# EAGLE library part 74LVCH1T45GW (library 74LVCH1T45)
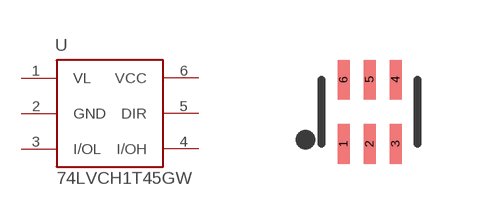
[diagram p0: symbol with the pads of SOT-363; footprint SOT-363]

Designator prefix -

## 74LVCH1T45GW  [SOT-363]
1  VL
2  GND
3  I/OL
4  I/OH
5  DIR
6  VCC

## Footprint SOT-363 (pad centres in mm)
smd 0.3 x 0.99: 1 -0.65,-0.8; 2 0,-0.8; 3 0.65,-0.8; 4 0.65,0.81; 5 0,0.81; 6 -0.65,0.81